# Altium footprint library CAP.PcbLib: 45 footprints (part 3 of 3)
Each footprint in its own frame and in the unit in brackets; x right, y up, seen from the top. Pads: shape width x height; smd on the part's side, far side on the other; paste and mask are expansions set on the pad; w line width, h text height; cw(c..) or ccw(c..) is an arc to the next point about the centre after c.
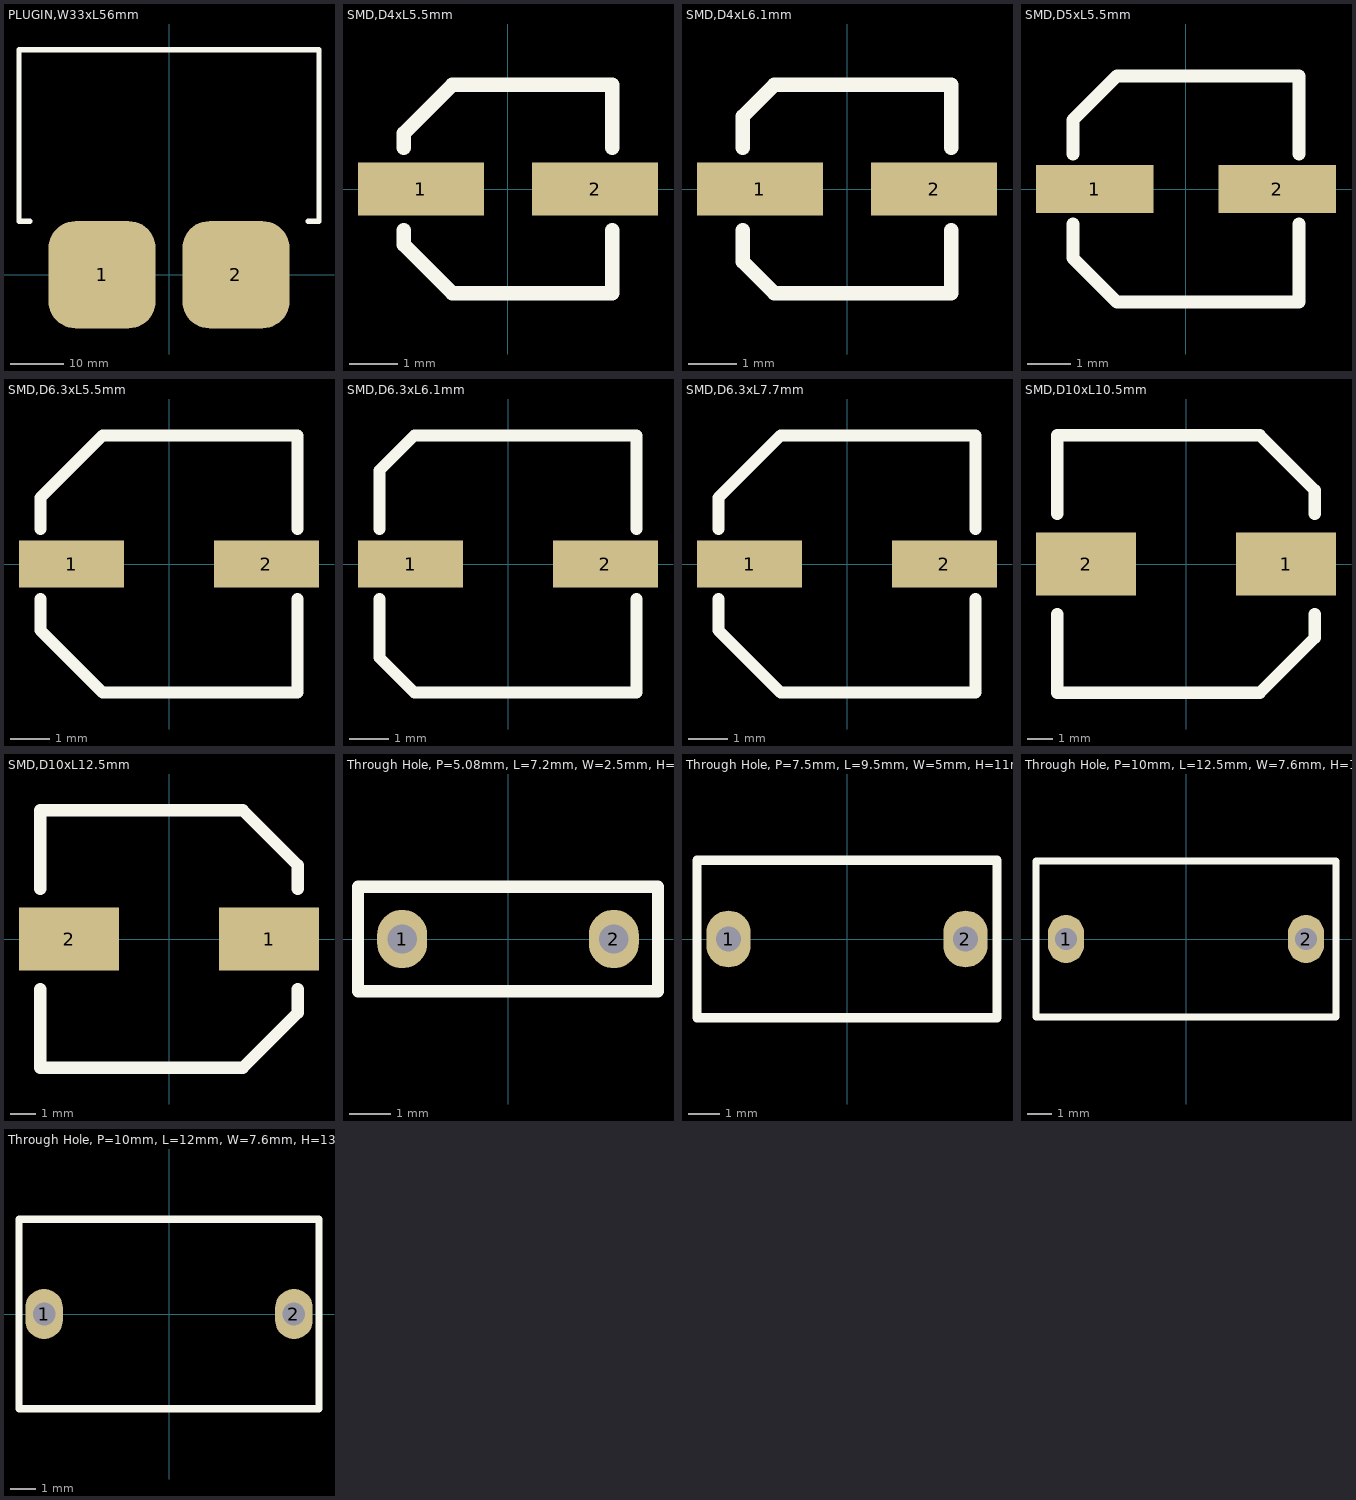
[diagram p2: the footprints below, top view; thin cyan lines are the x and y axes]

## PLUGIN,W33xL56mm [mm] "FKP1 0.47uF 1.6kV"
pads (2):
  rrect50% 20x20 smd mask+2: 1(-12.5,0) 2(12.5,0)
Top Overlay:
  lines w1: -26,10 -28,10 -28,42 28,42 28,10 26,10
3D body "tu_snuuber.STEP": height 52.11, standoff 0.12, extent -27.5,-5 27.5,41.76

## SMD,D4xL5.5mm [mm]
pads (2):
  rect 2.6x1.1 smd mask+0.1: 1(-1.8,0) 2(1.8,0)
Top Overlay:
  lines w0.3: -2.15,-0.85 -2.15,-1.15 -1.15,-2.15 2.15,-2.15 2.15,-0.85 ; -2.15,0.85 -2.15,1.15 -1.15,2.15 2.15,2.15 2.15,0.85
3D body "User Library-9B.STEP": height 6.42, standoff 0, extent -2.5,-2.15 2.5,2.15

## SMD,D4xL6.1mm [mm]
pads (2):
  rect 2.6x1.1 smd mask+0.1: 1(-1.8,0) 2(1.8,0)
Top Overlay:
  lines w0.3: -2.15,-0.85 -2.15,-1.5 -1.5,-2.15 2.15,-2.15 2.15,-0.85 ; -2.15,0.85 -2.15,1.5 -1.5,2.15 2.15,2.15 2.15,0.85
3D body "CAP_J-V_4X6P1_RUB.step": height 6.15, standoff 0, extent -2.299,-2.248 2.299,2.248

## SMD,D5xL5.5mm [mm]
pads (2):
  rect 2.7x1.1 smd mask+0.1: 1(-2.1,0) 2(2.1,0)
Top Overlay:
  lines w0.3: -2.6,-0.8 -2.6,-1.591 -1.591,-2.6 -1.35,-2.6 2.6,-2.6 2.6,-0.8 ; -2.6,0.8 -2.6,1.591 -1.591,2.6 -1.35,2.6 2.6,2.6 2.6,0.8
3D body "CAP_J-V_5X5P5_RUB.step": height 5.57, standoff 0, extent -2.845,-2.756 2.845,2.756

## SMD,D6.3xL5.5mm [mm]
pads (2):
  rect 2.7x1.2 smd mask+0.1: 1(-2.5,0) 2(2.5,0)
Top Overlay:
  lines w0.3: -3.3,-0.9 -3.3,-1.7 -1.7,-3.3 3.3,-3.3 3.3,-0.9 ; -3.3,0.9 -3.3,1.7 -1.7,3.3 3.3,3.3 3.3,0.9
3D body "User Library-ALU-D.STEP": height 5.4, standoff 0, extent -3.5,-3.3 3.5,3.3

## SMD,D6.3xL6.1mm [mm]
pads (2):
  rect 2.7x1.2 smd mask+0.1: 1(-2.5,0) 2(2.5,0)
Top Overlay:
  lines w0.3: -3.3,-0.9 -3.3,-2.4 -2.4,-3.3 3.3,-3.3 3.3,-0.9 ; -3.3,0.9 -3.3,2.4 -2.4,3.3 3.3,3.3 3.3,0.9
3D body "CAP_J-V_6P3X6P1_RUB.step": height 6.15, standoff 0, extent -3.594,-3.404 3.594,3.404

## SMD,D6.3xL7.7mm [mm]
pads (2):
  rect 2.7x1.2 smd mask+0.1: 1(-2.5,0) 2(2.5,0)
Top Overlay:
  lines w0.3: -3.3,-0.9 -3.3,-1.7 -1.7,-3.3 3.3,-3.3 3.3,-0.9 ; -3.3,0.9 -3.3,1.7 -1.7,3.3 3.3,3.3 3.3,0.9
3D body "User Library-CC0607.STEP": height 8.11, standoff 0, extent -3.5,-3.3 3.5,3.3

## SMD,D10xL10.5mm [mm]
pads (2):
  rect 4x2.5 smd mask+0.2: 1(4,0) 2(-4,0)
Top Overlay:
  lines w0.5: -5.15,-2 -5.15,-5.15 2.95,-5.15 5.15,-2.95 5.15,-2 ; -5.15,2 -5.15,5.15 2.95,5.15 5.15,2.95 5.15,2
3D body "User Library-User Library-CAP_Al_SMD_10x10_5mm.STEP": height 10.5, standoff 0, extent -5.55,-5.15 5.55,5.15

## SMD,D10xL12.5mm [mm]
pads (2):
  rect 4x2.5 smd mask+0.2: 1(4,0) 2(-4,0)
Top Overlay:
  lines w0.5: -5.15,-2 -5.15,-5.15 2.95,-5.15 5.15,-2.95 5.15,-2 ; -5.15,2 -5.15,5.15 2.95,5.15 5.15,2.95 5.15,2
3D body "CAP_9805E3_VIS.step": height 12.55, standoff 0, extent -6.045,-5.245 6.045,5.245

## Through Hole, P=5.08mm, L=7.2mm, W=2.5mm, H=6.5mm [mm]
pads (2):
  oval 1.2x1.4 hole 0.7: 1(-2.54,0) 2(2.54,0)
Top Overlay:
  lines w0.3: -3.6,-1.25 3.6,-1.25 3.6,1.25 -3.6,1.25 -3.6,-1.25

## Through Hole, P=7.5mm, L=9.5mm, W=5mm, H=11mm [mm]
pads (2):
  oval 1.4x1.8 hole 0.8: 1(-3.75,0) 2(3.75,0)
Top Overlay:
  lines w0.3: -4.75,-2.5 4.75,-2.5 4.75,2.5 -4.75,2.5 -4.75,-2.5

## Through Hole, P=10mm, L=12.5mm, W=7.6mm, H=17mm [mm]
pads (2):
  oval 1.5x2 hole 0.9: 1(-5,0) 2(5,0)
Top Overlay:
  lines w0.3: -6.25,-3.25 6.25,-3.25 6.25,3.25 -6.25,3.25 -6.25,-3.25

## Through Hole, P=10mm, L=12mm, W=7.6mm, H=13.5mm [mm]
pads (2):
  oval 1.5x2 hole 0.9: 1(-5,0) 2(5,0)
Top Overlay:
  lines w0.3: -6,-3.8 -6,3.8 6,3.8 6,-3.8 -6,-3.8